# Altium schematic symbol library SJ-352x-SMT.SchLib: 1 symbol
Pins are listed as number, name and electrical type; pins without a type are passive.

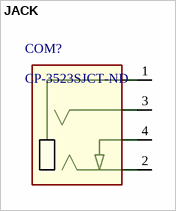
[diagram p0: symbol JACK]

## JACK
designator COM?, comment CP-3523SJCT-ND
PDF: http://www.cui.com/product/resource/digikeypdf/sj-352x-smt_series.pdf; BUY_LINK: http://www.digikey.com/product-detail/en/SJ-3523-SMT-TR/CP-3523SJCT-ND/669704; PRICE: 1.34000; ID: CP-3523SJCT-ND
footprint SJ-352x-SMT
pins: 1, 2, 3, 4